# Altium schematic symbol library Components - 27.08.25 - 23.30.SchLib: 1 symbol
Pins are listed as number, name and electrical type; pins without a type are passive.

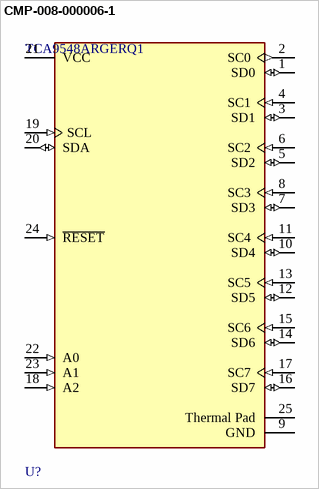
[diagram p0: symbol CMP-008-000006-1]

## CMP-008-000006-1
designator U?, comment TCA9548ARGERQ1
I2C Switch with Reset 8 Channel Bi-Directional 1.65V to 5.25V 24-Pin VQFN Cut Tape; ComponentLink3Description: https://datasheet.ciiva.com:443/pdfs/VipMasterIC/IC/WBND/WBND-S-A0002933800/WBND-S-A0002933800-1.pdf?src-supplier=IHS+Markit; Min Supply Voltage: 1.65V; Max Supply Voltage: 5.25V; RoHS: Compliant; Length: 4mm; ComponentLink2Description: http://www.winbond.com/resource-files/w25q128jv%20spi%20revc%2011162016.pdf?src-supplier=Digikey; Width: 4mm; Min Operating Temperature: -40°C; ComponentLink1Description: http://www.winbond.com/resource-files/w25q128jv%20revf%2003272018%20plus.pdf?src-supplier=Digikey; Pins: 24; Case/Package: VQFN; Max Operating Temperature: 85°C
footprint FP-RGE0024H-MFG
footprint FP-RGE0024H-IPC_C
footprint FP-RGE0024H-IPC_A
footprint FP-RGE0024H-IPC_B
pins: 1 SD0 (io), 2 SC0 (out), 3 SD1 (io), 4 SC1 (in), 5 SD2 (io), 6 SC2 (in), 7 SD3 (io), 8 SC3 (in), 9 GND (power), 10 SD4 (io), 11 SC4 (in), 12 SD5 (io), 13 SC5 (in), 14 SD6 (io), 15 SC6 (in), 16 SD7 (io), 17 SC7 (in), 18 A2 (in), 19 SCL (in), 20 SDA (io), 21 VCC (power), 22 A0 (in), 23 A1 (in), 24 ~{RESET} (in), 25 Thermal Pad (power)